# EAGLE library part M300-FV3104500 (library RescueRunner)
Headers & Wire Housings 10 WAY MALE PC TAIL DIL WJS Source: Datasheet <https://componentsearchengine.com/Datasheets/1/M300-MV31045M1.pdf>
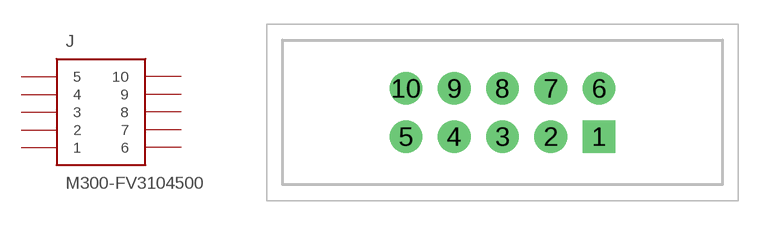
[diagram p7: symbol with the pads of M300-FV3104500; footprint M300-FV3104500]

Designator prefix J

## M300-FV3104500  [M300-FV3104500]
1  1
2  2
3  3
4  4
5  5
6  6
7  7
8  8
9  9
10  10

## Footprint M300-FV3104500 (pad centres in mm)
M300-MV31045M1-1
drill 1.35 pad 2.025 square: 1 12,0
drill 1.35 pad 2.025: 2 9,0; 3 6,0; 4 3,0; 5 0,0; 6 12,3; 7 9,3; 8 6,3; 9 3,3; 10 0,3